# Altium schematic symbol library MCP79400.Schlib: 1 symbol
Pins are listed as number, name and electrical type; pins without a type are passive.

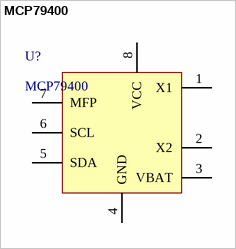
[diagram p0: symbol MCP79400]

## MCP79400
designator U?
pins: 1 X1, 2 X2, 3 VBAT (power), 4 GND (power), 5 SDA, 6 SCL, 7 MFP, 8 VCC (power)